# Altium footprint library Connectors.PcbLib: 76 footprints (part 1 of 5)
Each footprint in its own frame and in the unit in brackets; x right, y up, seen from the top. Pads: shape width x height; smd on the part's side, far side on the other; paste and mask are expansions set on the pad; w line width, h text height; cw(c..) or ccw(c..) is an arc to the next point about the centre after c.
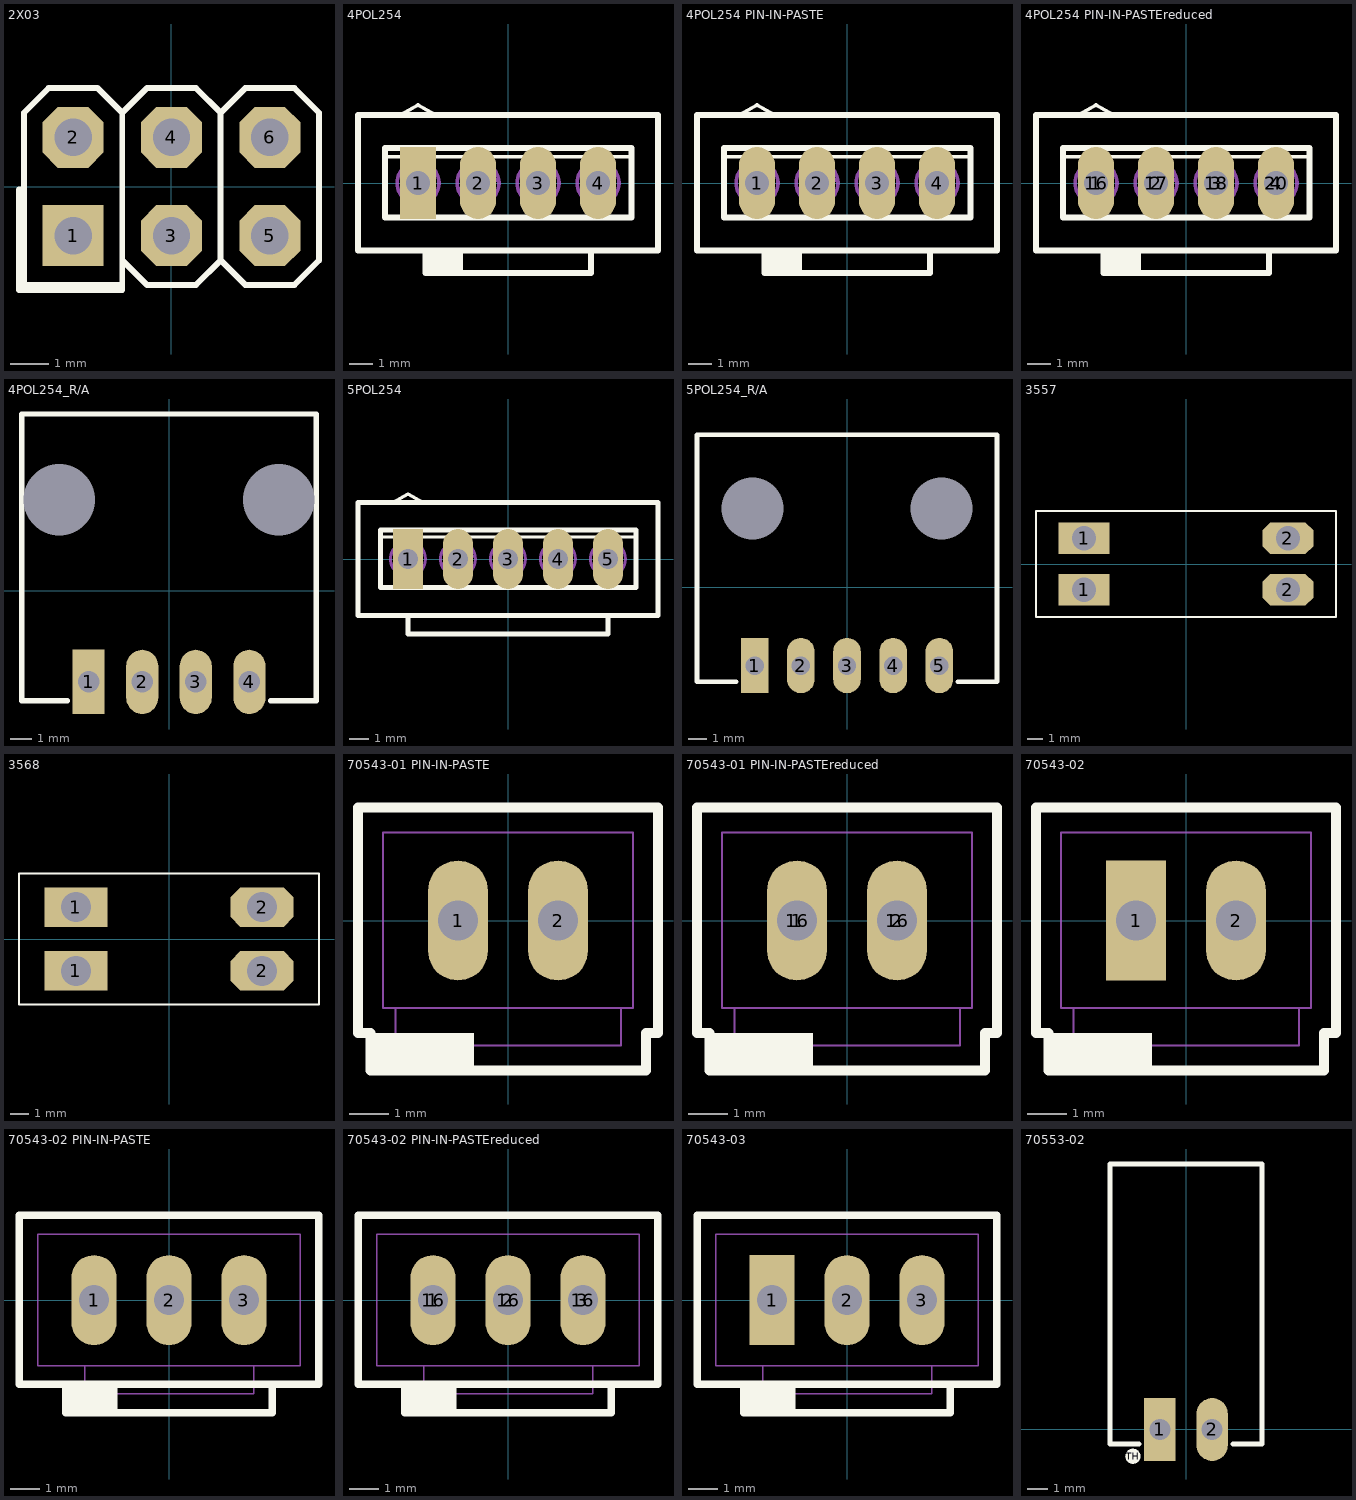
[diagram p0: the footprints below, top view; thin cyan lines are the x and y axes]

## 2X03 [mil]
pads (6):
  rect 62x62 hole 38: 1(-100,-50)
  oct 62x62 hole 38: 2(-100,50) 3(0,-50) 4(0,50) 5(100,-50) 6(100,50)
Top Overlay:
  lines w6: -152,-3 -155,-3 -155,-105 -50,-105 -50,-100 ; -50,-70 -50,-100 ; -50,-100 -150,-100 -150,75 -125,100 -75,100 -50,75 ; -50,75 -25,100 25,100 50,75 ; -50,75 -50,-75 -25,-100 25,-100 50,-75 ; 50,-75 50,75 ; 50,-75 75,-100 125,-100 150,-75 150,75 125,100 75,100 50,75
Mechanical 8:
  rectangle: -110,-60 -90,-40
  rectangle: -110,40 -90,60
  rectangle: -10,40 10,60
  rectangle: -10,-60 10,-40
  rectangle: 90,40 110,60
  rectangle: 90,-60 110,-40
3D body: height 100, standoff 0, extent -153,-103 153,103
3D body: height 336.22, standoff 0, extent -115,35 -85,65
3D body: height 336.22, standoff 0, extent -15,35 15,65
3D body: height 336.22, standoff 0, extent 85,35 115,65
3D body: height 336.22, standoff 0, extent -115,-65 -85,-35
3D body: height 336.22, standoff 0, extent -15,-65 15,-35
3D body: height 336.22, standoff 0, extent 85,-65 115,-35

## 4POL254 [mil]
pads (4):
  rect 60x120 hole 40: 1(-150,0)
  oval 60x120 hole 40: 2(-50,0) 3(50,0) 4(150,0)
Top Overlay:
  lines w6: -200.79,44 201,44 ; -180,113 -150,130 -120,113
  lines w10: -137.5,-140 -80,-140 ; -137.5,-121 -80,-121 ; -136.77,-112.22 138.73,-112.22 ; -136.5,-130 -80,-130 ; -80,-150 -80,-112.22 ; -250,-112.5 -137.5,-112.5 -137.5,-150 138,-150 138,-112.5 250,-112.5 250,113 -250,113 -250,-112.5 ; -205.12,-57.09 -205.12,58 206,58 206,-57.09 -205.12,-57.09
Mechanical 8:
  circle w6: c150,0 r35
  circle w6: c50,0 r35
  circle w6: c-50,0 r35
  circle w6: c-150,0 r35
  lines w6: -175,-20 -130,25 ; -80,-10 -20,5 ; 30,25 70,-25 ; 120,15 180,-15
3D body: height 454.33, standoff 118.11, extent -249.98,-149.98 249.98,112.98
3D body: height 118.11, standoff 0, extent -249.98,-112.48 249.98,112.98

## 4POL254 PIN-IN-PASTE [mil]
pads (8):
  oval 60x120 hole 40: 1(-150,0) 2(-50,0) 3(50,0) 4(150,0)
  oval 59x119 on Top Paste: ""(-150,0) ""(-50,0) ""(50,0) ""(150,0)
Top Overlay:
  lines w6: -200.79,44 201,44 ; -180,113 -150,130 -120,113
  lines w10: -137.5,-140 -80,-140 ; -137.5,-121 -80,-121 ; -136.77,-112.22 138.73,-112.22 ; -136.5,-130 -80,-130 ; -80,-150 -80,-112.22 ; -250,-112.5 -250,113 250,113 250,-112.5 138,-112.5 138,-150 -137.5,-150 -137.5,-112.5 -250,-112.5 ; -205.12,-57.09 206,-57.09 206,58 -205.12,58 -205.12,-57.09
Mechanical 8:
  circle w6: c-150,0 r35
  circle w6: c-50,0 r35
  circle w6: c50,0 r35
  circle w6: c150,0 r35
  lines w6: -175,-20 -130,25 ; -80,-10 -20,5 ; 30,25 70,-25 ; 120,15 180,-15
3D body: height 118.11, standoff 0, extent -249.98,-112.48 249.98,112.98
3D body: height 454.33, standoff 118.11, extent -249.98,-149.98 249.98,112.98

## 4POL254 PIN-IN-PASTEreduced [mil]
pads (8):
  oval 60x120 hole 40: 1(-150,0) 2(-50,0) 3(50,0) 4(150,0)
  round 55 on Top Paste: 16(-150,0) 17(-50,0) 18(50,0) 20(150,0)
Top Overlay:
  lines w6: -200.79,44 201,44 ; -180,113 -150,130 -120,113
  lines w10: -137.5,-140 -80,-140 ; -137.5,-121 -80,-121 ; -136.77,-112.22 138.73,-112.22 ; -136.5,-130 -80,-130 ; -80,-150 -80,-112.22 ; -250,-112.5 -250,113 250,113 250,-112.5 138,-112.5 138,-150 -137.5,-150 -137.5,-112.5 -250,-112.5 ; -205.12,-57.09 206,-57.09 206,58 -205.12,58 -205.12,-57.09
Mechanical 8:
  circle w6: c-150,0 r35
  circle w6: c-50,0 r35
  circle w6: c50,0 r35
  circle w6: c150,0 r35
  lines w6: -175,-20 -130,25 ; -80,-10 -20,5 ; 30,25 70,-25 ; 120,15 180,-15
3D body: height 118.11, standoff 0, extent -249.98,-112.48 249.98,112.98
3D body: height 454.33, standoff 118.11, extent -249.98,-149.98 249.98,112.98

## 4POL254_R/A [mil]
height 275
pads (6):
  rect 60x120 hole 40: 1(-150,-170)
  oval 60x120 hole 40: 2(-50,-170) 3(50,-170) 4(150,-170)
  round 0 hole 134 unplated: ""(-205,170) ""(205,170)
Top Overlay:
  lines w10: -190,-205 -275,-205 -275,330 275,330 275,-205 190,-205
3D body "705550038.stp": height 275, standoff -130, extent -275,-198 275,337

## 5POL254 [mil]
pads (5):
  rect 60x120 hole 40: 1(-200,0)
  oval 60x120 hole 40: 2(-100,0) 3(0,0) 4(100,0) 5(200,0)
Top Overlay:
  lines w6: -250.79,44 255,44 ; -230,113 -200,130 -170,113
  lines w10: -251,-113 150,-113 ; -250,-112.5 -300,-112.5 -300,113 300,113 300,-112.5 150,-112.5 ; -200,-112.5 -200,-150 200,-150 200,-112.5 ; -255.12,-57.09 -255.12,58 256,58 256,-57.09 -255.12,-57.09
Mechanical 8:
  circle w6: c100,0 r35
  circle w6: c0,0 r35
  circle w6: c-100,0 r35
  circle w6: c-200,0 r35
  circle w6: c200,0 r35
  lines w6: -225,-20 -180,25 ; -130,-10 -70,5 ; -20,25 20,-25 ; 70,15 130,-15 ; 170,15 230,-15
3D body: height 454.33, standoff 118.11, extent -299.98,-149.98 300,112.98
3D body: height 118.11, standoff 0, extent -299.98,-112.48 300,112.98

## 5POL254_R/A [mil]
height 275
pads (7):
  rect 60x120 hole 40: 1(-200,-170)
  oval 60x120 hole 40: 2(-100,-170) 3(0,-170) 4(100,-170) 5(200,-170)
  round 0 hole 134 unplated: ""(-205,170) ""(205,170)
Top Overlay:
  lines w10: -240,-205 -325,-205 -325,330 325,330 325,-205 240,-205
3D body "705510039.stp": height 278.11, standoff -146.89, extent -324.95,-198.82 324.95,336.18

## 3557 [mil] "3557"
pads (4):
  rect 133x83 hole 63: 1(-265,-67) 1(-265,67)
  oct 133x83 hole 63: 2(265,-67) 2(265,67)
Top Overlay:
  lines w5: -390,-137.5 390,-137.5 390,137.5 -390,137.5 -390,-137.5
3D body: height 275.59, standoff 0, extent -392.5,-140 392.5,140
3D body: height 708.66, standoff 200, extent -353,-73 353,73
3D body: height 299.21, standoff 0, extent -354,-74 -168.31,74
3D body: height 299.21, standoff 0, extent 166.67,-74.98 352.36,73.02

## 3568 [mil]
pads (4):
  rect 133x83 hole 63: 1(-195.28,-67) 1(-195.28,67)
  oct 133x83 hole 63: 2(195.28,-67) 2(195.28,67)
Top Overlay:
  lines w5: -314.96,-137.5 314.96,-137.5 314.96,137.5 -314.96,137.5 -314.96,-137.5
3D body "keystone-PN3568.STEP": height 289.65, standoff -110.35, extent -315.01,-132.32 314.99,132.68

## 70543-01 PIN-IN-PASTE [mil]
pads (4):
  oval 60x120 hole 40: 1(-50,0) 2(50,0)
  oval 59x119 on Top Paste: ""(-50,0) ""(50,0)
Top Overlay:
  region: -137.5,-112.5 -34.45,-112.5 -34.45,-150 -137.5,-150
  lines w10: -150,-112.5 -150,113 150,113 150,-112.5 138,-112.5 138,-150 -137.5,-150 -137.5,-112.5 -150,-112.5
Mechanical 8:
  rectangle: 41,-9.37 60,10
  rectangle: -59.37,-9.37 -40.63,10
  lines w2: -112.5,-87.5 -125,-87.5 -125,88 125,88 125,-87.5 113,-87.5 ; -112.5,-87.5 113,-87.5 ; -112.5,-87.5 -112.5,-125 113,-125 113,-87.5
  text "1" at -112.5,-62.5 h62
3D body: height 118.11, standoff 0, extent -149.98,-112.48 149.98,112.98
3D body: height 450, standoff 118.11, extent -149.98,-149.98 149.98,112.98

## 70543-01 PIN-IN-PASTEreduced [mil]
pads (4):
  oval 60x120 hole 40: 1(-50,0) 2(50,0)
  round 55 on Top Paste: 16(-50,0) 16(50,0)
Top Overlay:
  region: -137.5,-112.5 -34.45,-112.5 -34.45,-150 -137.5,-150
  lines w10: -150,-112.5 -137.5,-112.5 -137.5,-150 138,-150 138,-112.5 150,-112.5 150,113 -150,113 -150,-112.5
Mechanical 8:
  rectangle: -59.37,-9.37 -40.63,10
  rectangle: 41,-9.37 60,10
  lines w2: -112.5,-87.5 -112.5,-125 113,-125 113,-87.5 ; -112.5,-87.5 113,-87.5 ; -112.5,-87.5 -125,-87.5 -125,88 125,88 125,-87.5 113,-87.5
  text "1" at -112.5,-62.5 h62
3D body: height 450, standoff 118.11, extent -149.98,-149.98 149.98,112.98
3D body: height 118.11, standoff 0, extent -149.98,-112.48 149.98,112.98

## 70543-02 [mil]
pads (2):
  rect 60x120 hole 40: 1(-50,0)
  oval 60x120 hole 40: 2(50,0)
Top Overlay:
  region: -137.5,-112.5 -34.45,-112.5 -34.45,-150 -137.5,-150
  lines w10: -150,-112.5 -137.5,-112.5 -137.5,-150 138,-150 138,-112.5 150,-112.5 150,113 -150,113 -150,-112.5
Mechanical 8:
  rectangle: -59.37,-9.37 -40.63,10
  rectangle: 41,-9.37 60,10
  lines w2: -112.5,-87.5 -112.5,-125 113,-125 113,-87.5 ; -112.5,-87.5 113,-87.5 ; -112.5,-87.5 -125,-87.5 -125,88 125,88 125,-87.5 113,-87.5
  text "1" at -112.5,-62.5 h62
3D body: height 450, standoff 118.11, extent -149.98,-149.98 149.98,112.98
3D body: height 118.11, standoff 0, extent -149.98,-112.48 149.98,112.98

## 70543-02 PIN-IN-PASTE [mil]
pads (6):
  oval 60x120 hole 40: 1(-100,0) 2(0,0) 3(100,0)
  oval 59x119 on Top Paste: ""(-100,0) ""(0,0) ""(100,0)
Top Overlay:
  region: -68.9,-112.5 -68.9,-150 -137.5,-150 -137.5,-112.5
  lines w10: -137.5,-112.5 -137.5,-150 138,-150 138,-112.5 ; -137.5,-112.5 -200,-112.5 -200,113 200,113 200,-112.5 138,-112.5 ; -137.5,-112.5 138,-112.5
Mechanical 8:
  rectangle: 91,-9.37 110,10
  rectangle: -109.37,-9.37 -90.63,10
  rectangle: -9.37,-9.37 10,10
  lines w2: -112.5,-87.5 -112.5,-125 113,-125 113,-87.5 ; -112.5,-87.5 113,-87.5 ; -112.5,-87.5 -175,-87.5 -175,88 175,88 175,-87.5 113,-87.5
  text "1" at -162.5,-62.5 h62
3D body: height 450, standoff 118.11, extent -137.48,-149.98 137.98,-112.52
3D body: height 450, standoff 0, extent -199.98,-112.48 199.98,112.98

## 70543-02 PIN-IN-PASTEreduced [mil]
pads (6):
  oval 60x120 hole 40: 1(-100,0) 2(0,0) 3(100,0)
  round 55 on Top Paste: 16(-100,0) 16(0,0) 16(100,0)
Top Overlay:
  region: -68.9,-112.5 -68.9,-150 -137.5,-150 -137.5,-112.5
  lines w10: -137.5,-112.5 138,-112.5 ; -137.5,-112.5 -200,-112.5 -200,113 200,113 200,-112.5 138,-112.5 ; -137.5,-112.5 -137.5,-150 138,-150 138,-112.5
Mechanical 8:
  rectangle: -9.37,-9.37 10,10
  rectangle: -109.37,-9.37 -90.63,10
  rectangle: 91,-9.37 110,10
  lines w2: -112.5,-87.5 -175,-87.5 -175,88 175,88 175,-87.5 113,-87.5 ; -112.5,-87.5 113,-87.5 ; -112.5,-87.5 -112.5,-125 113,-125 113,-87.5
  text "1" at -162.5,-62.5 h62
3D body: height 450, standoff 0, extent -199.98,-112.48 199.98,112.98
3D body: height 450, standoff 118.11, extent -137.48,-149.98 137.98,-112.52

## 70543-03 [mil]
pads (3):
  rect 60x120 hole 40: 1(-100,0)
  oval 60x120 hole 40: 2(0,0) 3(100,0)
Top Overlay:
  region: -68.9,-112.5 -68.9,-150 -137.5,-150 -137.5,-112.5
  lines w10: -137.5,-112.5 -137.5,-150 138,-150 138,-112.5 ; -137.5,-112.5 -200,-112.5 -200,113 200,113 200,-112.5 138,-112.5 ; -137.5,-112.5 138,-112.5
Mechanical 8:
  rectangle: 91,-9.37 110,10
  rectangle: -109.37,-9.37 -90.63,10
  rectangle: -9.37,-9.37 10,10
  lines w2: -112.5,-87.5 -112.5,-125 113,-125 113,-87.5 ; -112.5,-87.5 113,-87.5 ; -112.5,-87.5 -175,-87.5 -175,88 175,88 175,-87.5 113,-87.5
  text "1" at -162.5,-62.5 h62
3D body: height 450, standoff 118.11, extent -137.48,-149.98 137.98,-112.52
3D body: height 450, standoff 0, extent -199.98,-112.48 199.98,112.98

## 70553-02 [mil]
pads (3):
  rect 60x120 hole 40: 1(-50,0)
  oval 60x120 hole 40: 2(50,0)
  round 29.53 on Top Overlay mask+0: TH(-101.38,-51.18)
Top Overlay:
  lines w10: -89.57,-27.76 -145.08,-27.76 -145.08,507.28 145.08,507.28 145.08,-27.76 89.57,-27.76
3D body "705530001.stp": height 276.14, standoff -128.86, extent -145,-27.56 145,507.44